# EAGLE library part DRV8825-CARRIER (library MotorDrivers)
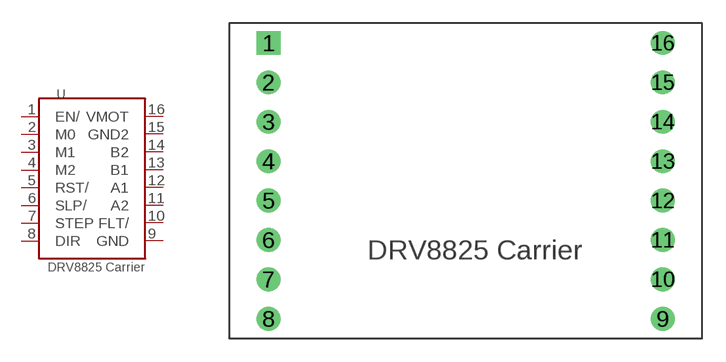
[diagram p0: symbol with the pads of DRV8825-CARRIER; footprint DRV8825-CARRIER]

Designator prefix U

## DRV8825-CARRIER  [DRV8825-CARRIER]
1  EN/
2  M0
3  M1
4  M2
5  RST/
6  SLP/
7  STEP
8  DIR
9  GND
10  FLT/
11  A2
12  A1
13  B1
14  B2
15  GND2
16  VMOT

## Footprint DRV8825-CARRIER (pad centres in mm)
drill 1.016 square: 1 -12.7,8.89
drill 1.016: 2 -12.7,6.35; 3 -12.7,3.81; 4 -12.7,1.27; 5 -12.7,-1.27; 6 -12.7,-3.81; 7 -12.7,-6.35; 8 -12.7,-8.89; 9 12.7,-8.89; 10 12.7,-6.35; 11 12.7,-3.81; 12 12.7,-1.27; 13 12.7,1.27; 14 12.7,3.81; 15 12.7,6.35; 16 12.7,8.89